# EAGLE library part HEADER6 (library Custom_old)
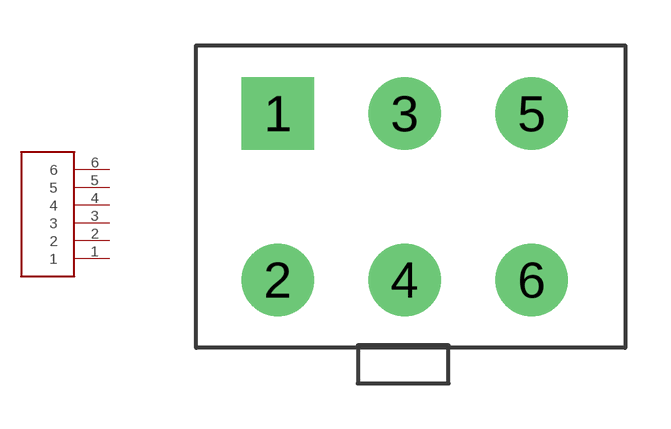
[diagram p29: symbol with the pads of 6PINVALULOK; footprint 6PINVALULOK]

Designator prefix -

## HEADER6  [6PINVALULOK]
1  1
2  2
3  3
4  4
5  5
6  6

## Footprint 6PINVALULOK (pad centres in mm)
drill 1.6 square: 1 -6.35,2.96
drill 1.6: 2 -6.35,-2.54; 3 -2.15,2.96; 4 -2.15,-2.54; 5 2.05,2.96; 6 2.05,-2.54